# Altium footprint library LMH7220.PcbLib: 3 footprints
Each footprint in its own frame and in the unit in brackets; x right, y up, seen from the top. Pads: shape width x height; smd on the part's side, far side on the other; paste and mask are expansions set on the pad; w line width, h text height; cw(c..) or ccw(c..) is an arc to the next point about the centre after c.
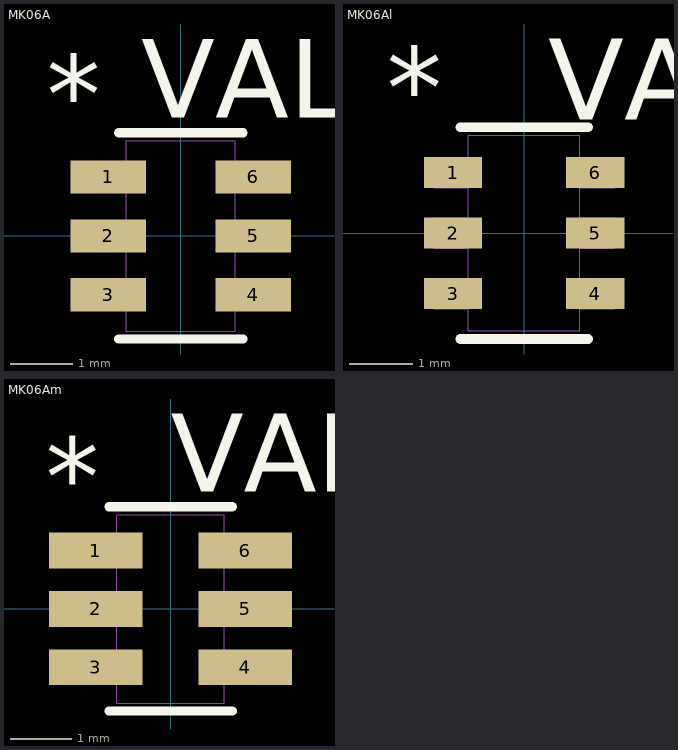
[diagram p0: the footprints below, top view; thin cyan lines are the x and y axes]

## MK06A [mil]
pads (6):
  rect 48x21 smd: 1(-46,37.4) 2(-46,0) 3(-46,-37.4) 4(46,-37.4) 5(46,0) 6(46,37.4)
Top Overlay:
  lines w6: -39.5,-65.5 39.5,-65.5 ; -39.5,65.5 39.5,65.5
  text "*" at -85,65 h50
  text "VAL" at -25,75 h50
Mechanical 1:
  lines w0: -56,-46.9 -56,-27.9 -34.5,-27.9 -34.5,-46.9 -56,-46.9 ; -56,-9.5 -56,9.5 -34.5,9.5 -34.5,-9.5 -56,-9.5 ; -56,27.9 -56,46.9 -34.5,46.9 -34.5,27.9 -56,27.9 ; -34.5,-60.5 34.5,-60.5 34.5,60.5 -34.5,60.5 -34.5,-60.5 ; 34.5,-46.9 34.5,-27.9 56,-27.9 56,-46.9 34.5,-46.9 ; 34.5,-9.5 34.5,9.5 56,9.5 56,-9.5 34.5,-9.5 ; 34.5,27.9 34.5,46.9 56,46.9 56,27.9 34.5,27.9
  text "*" at -85,65 h50

## MK06Al [mil]
pads (6):
  rect 36x19 smd: 1(-44,37.4) 2(-44,0) 3(-44,-37.4) 4(44,-37.4) 5(44,0) 6(44,37.4)
Top Overlay:
  lines w6: -39.5,-65.5 39.5,-65.5 ; -39.5,65.5 39.5,65.5
  text "VAL" at 15,70 h50
  text "*" at -85,65 h50
Mechanical 1:
  lines w0: -56,-46.9 -34.5,-46.9 -34.5,-27.9 -56,-27.9 -56,-46.9 ; -56,-9.5 -34.5,-9.5 -34.5,9.5 -56,9.5 -56,-9.5 ; -56,27.9 -34.5,27.9 -34.5,46.9 -56,46.9 -56,27.9 ; -34.5,-60.5 -34.5,60.5 34.5,60.5 34.5,-60.5 -34.5,-60.5 ; 34.5,-46.9 56,-46.9 56,-27.9 34.5,-27.9 34.5,-46.9 ; 34.5,-9.5 56,-9.5 56,9.5 34.5,9.5 34.5,-9.5 ; 34.5,27.9 56,27.9 56,46.9 34.5,46.9 34.5,27.9
  text "*" at -85,65 h50

## MK06Am [mil]
pads (6):
  rect 60x23 smd: 1(-48,37.4) 2(-48,0) 3(-48,-37.4) 4(48,-37.4) 5(48,0) 6(48,37.4)
Top Overlay:
  lines w6: -39.5,-65.5 39.5,-65.5 ; -39.5,65.5 39.5,65.5
  text "VAL" at 0,75 h50
  text "*" at -80,60 h50
Mechanical 1:
  lines w0: -56,-46.9 -34.5,-46.9 -34.5,-27.9 -56,-27.9 -56,-46.9 ; -56,-9.5 -34.5,-9.5 -34.5,9.5 -56,9.5 -56,-9.5 ; -56,27.9 -34.5,27.9 -34.5,46.9 -56,46.9 -56,27.9 ; -34.5,-60.5 -34.5,60.5 34.5,60.5 34.5,-60.5 -34.5,-60.5 ; 34.5,-46.9 56,-46.9 56,-27.9 34.5,-27.9 34.5,-46.9 ; 34.5,-9.5 56,-9.5 56,9.5 34.5,9.5 34.5,-9.5 ; 34.5,27.9 56,27.9 56,46.9 34.5,46.9 34.5,27.9
  text "*" at -80,60 h50